# Altium footprint library buzzerGrande.PcbLib: 1 footprints
Each footprint in its own frame and in the unit in brackets; x right, y up, seen from the top. Pads: shape width x height; smd on the part's side, far side on the other; paste and mask are expansions set on the pad; w line width, h text height; cw(c..) or ccw(c..) is an arc to the next point about the centre after c.
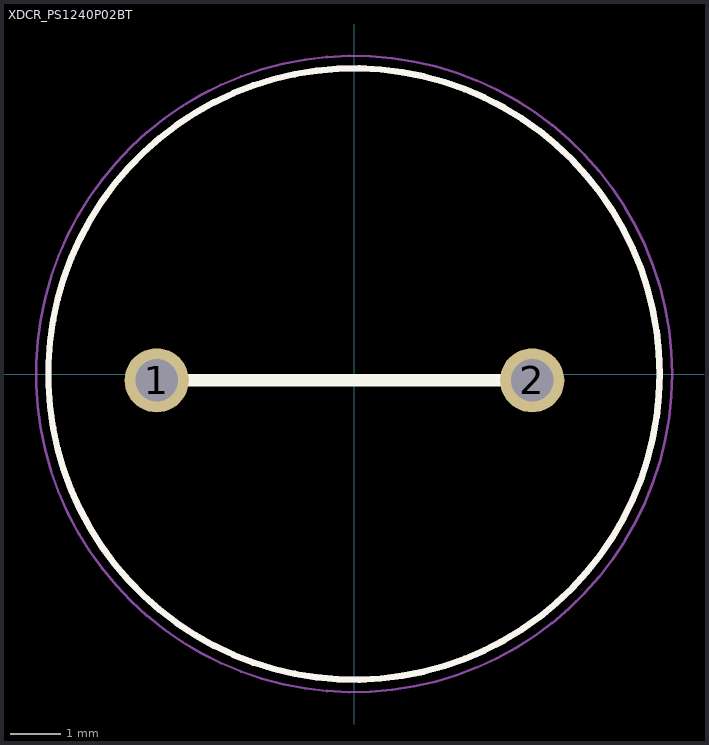
[diagram p0: the footprint, top view; thin cyan lines are the x and y axes]

## XDCR_PS1240P02BT [mm]
pads (2):
  round 1.28 hole 0.85: 1(-3.937,-0.127) 2(3.556,-0.127)
Top Overlay:
  circle w0.127: c0,0 r6.1
  lines w0.254: -3.937,-0.127 3.556,-0.127
Mechanical 13:
  circle w0.127: c0,0 r6.1
Mechanical 15:
  circle w0.05: c0,0 r6.35
3D body "buzzer.stp": height 9.6, standoff -5.4, extent -6.127,-6.127 5.873,5.873